# EAGLE library part FSUSB42MUX (library FSUSB42MUX)
ON SEMICONDUCTOR - FSUSB42MUX - USB SWITCH, DUAL, DPDT, MSOP-10 Source: Datasheet <https://componentsearchengine.com/Datasheets/2/FSUSB42MUX.pdf>
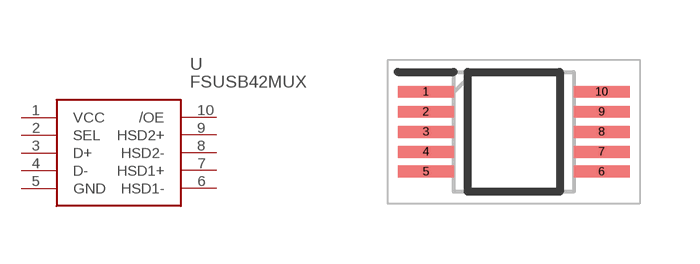
[diagram p0: symbol with the pads of SOP50P490X110-10N; footprint SOP50P490X110-10N]

Designator prefix U

## FSUSB42MUX (Arrow_Part_Number: FSUSB42MUX; Arrow_Price-Stock: https://www.arrow.com/en/products/fsusb42mux/on-semiconductor; Description: ON SEMICONDUCTOR - FSUSB42MUX - USB SWITCH, DUAL, DPDT, MSOP-10; Height: 1.1mm; Manufacturer_Name: ON Semiconductor; Manufacturer_Part_Number: FSUSB42MUX; Mouser_Part_Number: 512-FSUSB42MUX; Mouser_Price-Stock: https://www.mouser.co.uk/ProductDetail/ON-Semiconductor-Fairchild/FSUSB42MUX?qs=yA6kp8fx8Y59RAD4iJDRWg%3D%3D)  [SOP50P490X110-10N]
1  VCC
2  SEL
3  D+
4  D-
5  GND
6  HSD1-
7  HSD1+  pwr
8  HSD2-
9  HSD2+
10  /OE

## Footprint SOP50P490X110-10N (pad centres in mm)
MSOP10 3X3 CASE 846AE_1
smd 1.4 x 0.3: 1 -2.2,1; 2 -2.2,0.5; 3 -2.2,0; 4 -2.2,-0.5; 5 -2.2,-1; 6 2.2,-1; 7 2.2,-0.5; 8 2.2,0; 9 2.2,0.5; 10 2.2,1